# Altium footprint library PCB - CONNECTOR - MOLEX - MOLEX 0533980471.PcbLib: 1 footprints
Each footprint in its own frame and in the unit in brackets; x right, y up, seen from the top. Pads: shape width x height; smd on the part's side, far side on the other; paste and mask are expansions set on the pad; w line width, h text height; cw(c..) or ccw(c..) is an arc to the next point about the centre after c.
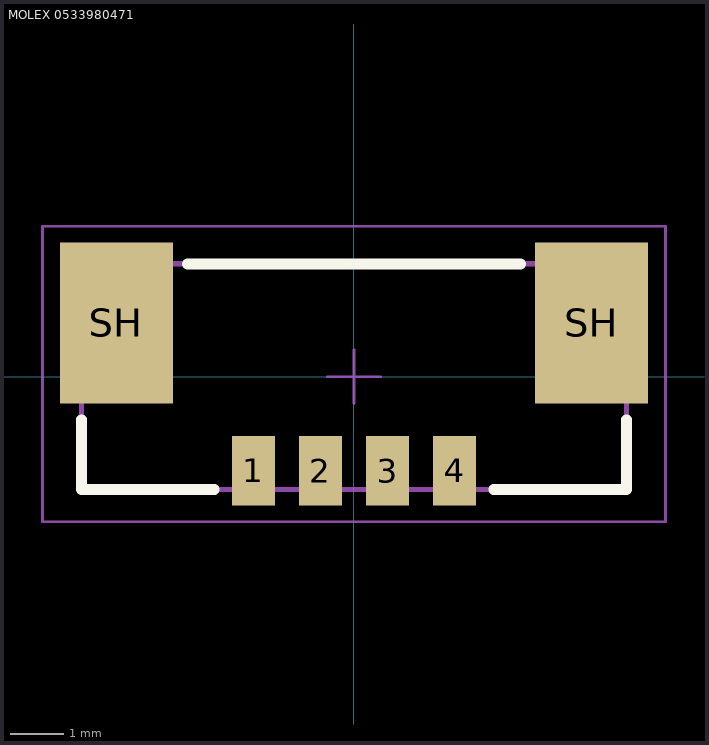
[diagram p0: the footprint, top view; thin cyan lines are the x and y axes]

## MOLEX 0533980471 [mm] "Connector Header Surface Mount 4 position, 1.25mm Pitch, 10.15x4.2 mm Body"
height 4.7
pads (6):
  rect 0.8x1.3 smd: 1(-1.875,-1.75) 2(-0.625,-1.75) 3(0.625,-1.75) 4(1.875,-1.75)
  rect 2.1x3 smd: SH(-4.425,1) SH(4.425,1)
Top Overlay:
  lines w0.2: -5.075,-0.8 -5.075,-2.1 -2.6,-2.1 ; -3.1,2.1 0,2.1 3.1,2.1 ; 2.6,-2.1 5.075,-2.1 5.075,-0.8
Mechanical 13:
  lines w0.1: -5.075,-2.1 -5.075,2.1 5.075,2.1 5.075,-2.1 -5.075,-2.1
Mechanical 15 (Mech15):
  lines w0.05: -0.5,0 0,0 ; 0,-0.5 0,0 ; 0,0.5 0,0 ; 0.5,0 0,0 ; -5.8,-2.7 -5.8,2.8 5.8,2.8 5.8,-2.7 -5.8,-2.7
3D body: height 4.75, standoff 0, extent -5.075,-2.1 5.075,2.1